# Altium schematic symbol library Voltage_Regulator.SchLib: 1 symbol
Pins are listed as number, name and electrical type; pins without a type are passive.

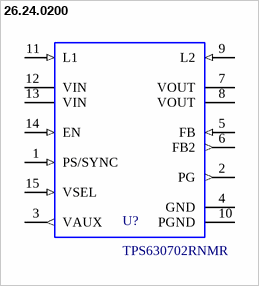
[diagram p0: symbol 26.24.0200]

## 26.24.0200
designator U?, comment TPS630702RNMR
IC REG SWITCHING 2A 2.5V TO 9V; Manufacturer: Texas Instruments; Output Type: Regulated; Number of Regulators: 1; Voltage - Input (Max): 16V; Library Control - Checked Footprint: Yes; Library Control - Person that Checked Footprint: Nícolas; Library Control - Person that did the Last Update Footprint: Raquel; Voltage - Input (Min): 2V; Frequency - Switching: 2.4MHz; Part Number: TPS630702RNMR; Library Ref: Voltage Regulator; Category: Switching Voltage Regulator; Price: 1=, 10=, 100= (USD); Package/ Case: VQFN-15; Operating Temperature: -40 C ~ 125 C; Max Power Dissipation: -; Voltage - Output (Min/Fixed): 2.5V; Voltage - Dropout (Max): -; Library Control - Checked Schematic: Yes; Library Control - Last Update: 13/06/21; Library Control - Person that Checked Schematic: Nícolas; Library Control - Person that did the Last Update Schematic: Raquel; Voltage - Output (Max): 9V; Current - Output: 2A; Current - Operating Supply: -; ComponentLink1Description: Datasheet; ComponentLink1URL: https://www.ti.com/general/docs/suppproductinfo.tsp?distId=26&gotoUrl=https://www.ti.com/lit/gpn/tps63070; ComponentLink2Description: Mouser Link
footprint VQFN-15
pins: 1 PS/SYNC (in), 2 PG (out), 3 VAUX (out), 4 GND, 5 FB (in), 6 FB2 (out), 7 VOUT (power), 8 VOUT (power), 9 L2 (in), 10 PGND (power), 11 L1 (in), 12 VIN (power), 13 VIN (power), 14 EN (in), 15 VSEL (in)